# EAGLE library part 2X40 (library IsaacAlonso)
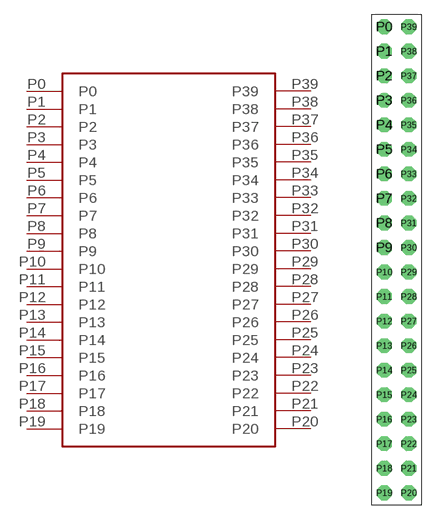
[diagram p7: symbol with the pads of 2X40; footprint 2X40]

Designator prefix -

## 2X40  [2X40]
P0  P0
P1  P1
P2  P2
P3  P3
P4  P4
P5  P5
P6  P6
P7  P7
P8  P8
P9  P9
P10  P10
P11  P11
P12  P12
P13  P13
P14  P14
P15  P15
P16  P16
P17  P17
P18  P18
P19  P19
P20  P20
P21  P21
P22  P22
P23  P23
P24  P24
P25  P25
P26  P26
P27  P27
P28  P28
P29  P29
P30  P30
P31  P31
P32  P32
P33  P33
P34  P34
P35  P35
P36  P36
P37  P37
P38  P38
P39  P39

## Footprint 2X40 (pad centres in mm)
drill 1.016 octagon: P0 -1.27,24.13; P1 -1.27,21.59; P2 -1.27,19.05; P3 -1.27,16.51; P4 -1.27,13.97; P5 -1.27,11.43; P6 -1.27,8.89; P7 -1.27,6.35; P8 -1.27,3.81; P9 -1.27,1.27; P10 -1.27,-1.27; P11 -1.27,-3.81; P12 -1.27,-6.35; P13 -1.27,-8.89; P14 -1.27,-11.43; P15 -1.27,-13.97; P16 -1.27,-16.51; P17 -1.27,-19.05; P18 -1.27,-21.59; P19 -1.27,-24.13; P20 1.27,-24.13; P21 1.27,-21.59; P22 1.27,-19.05; P23 1.27,-16.51; P24 1.27,-13.97; P25 1.27,-11.43; P26 1.27,-8.89; P27 1.27,-6.35; P28 1.27,-3.81; P29 1.27,-1.27; P30 1.27,1.27; P31 1.27,3.81; P32 1.27,6.35; P33 1.27,8.89; P34 1.27,11.43; P35 1.27,13.97; P36 1.27,16.51; P37 1.27,19.05; P38 1.27,21.59; P39 1.27,24.13